# Altium footprint library Footprint.PcbLib: 1 footprints
Each footprint in its own frame and in the unit in brackets; x right, y up, seen from the top. Pads: shape width x height; smd on the part's side, far side on the other; paste and mask are expansions set on the pad; w line width, h text height; cw(c..) or ccw(c..) is an arc to the next point about the centre after c.
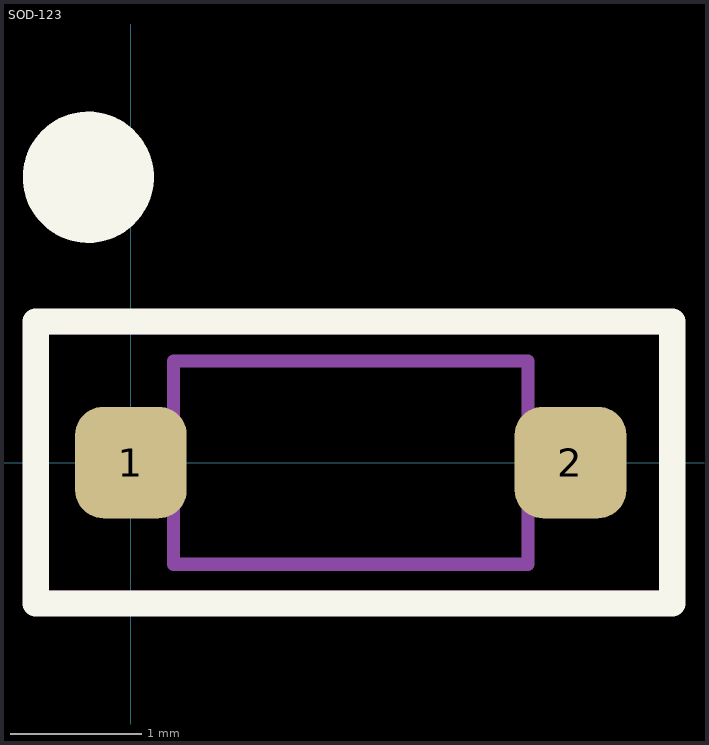
[diagram p0: the footprint, top view; thin cyan lines are the x and y axes]

## SOD-123 [mm] "Chip Diode, 2-Leads, Body 2.70x1.55mm, IPC Medium Density"
height 1.175
pads (2):
  rrect50% 0.85x0.85 smd mask+0.05: 1(0,0) 2(3.35,0)
Top Overlay:
  circle w0.5: c-0.325,2.175 r0.25
  lines w0.2: -0.725,-1.075 4.125,-1.075 4.125,1.075 -0.725,1.075 -0.725,-1.075
Top Pattern:
  lines w0.1: 0.075,-0.25 0.075,0.25 ; 0.325,-0.25 -0.175,-0.25 -0.175,0 -0.175,0.25 0.325,0.25 ; 3.025,-0.25 3.525,-0.25 3.525,0 3.525,0.25 3.025,0.25 ; 3.275,-0.25 3.275,0.25 ; 0.325,-0.775 3.025,-0.775 3.025,0.775 0.325,0.775 0.325,-0.775
Courtyard:
  lines w0.1: -0.675,-1.025 4.075,-1.025 4.075,1.025 -0.675,1.025 -0.675,-1.025
3D body "SOD-123.step": height 1.17, standoff 0, extent -0.175,-0.775 3.525,0.775